# Altium footprint library CAPC - CAPacitorChip.PcbLib: 30 footprints (part 1 of 2)
Each footprint in its own frame and in the unit in brackets; x right, y up, seen from the top. Pads: shape width x height; smd on the part's side, far side on the other; paste and mask are expansions set on the pad; w line width, h text height; cw(c..) or ccw(c..) is an arc to the next point about the centre after c.
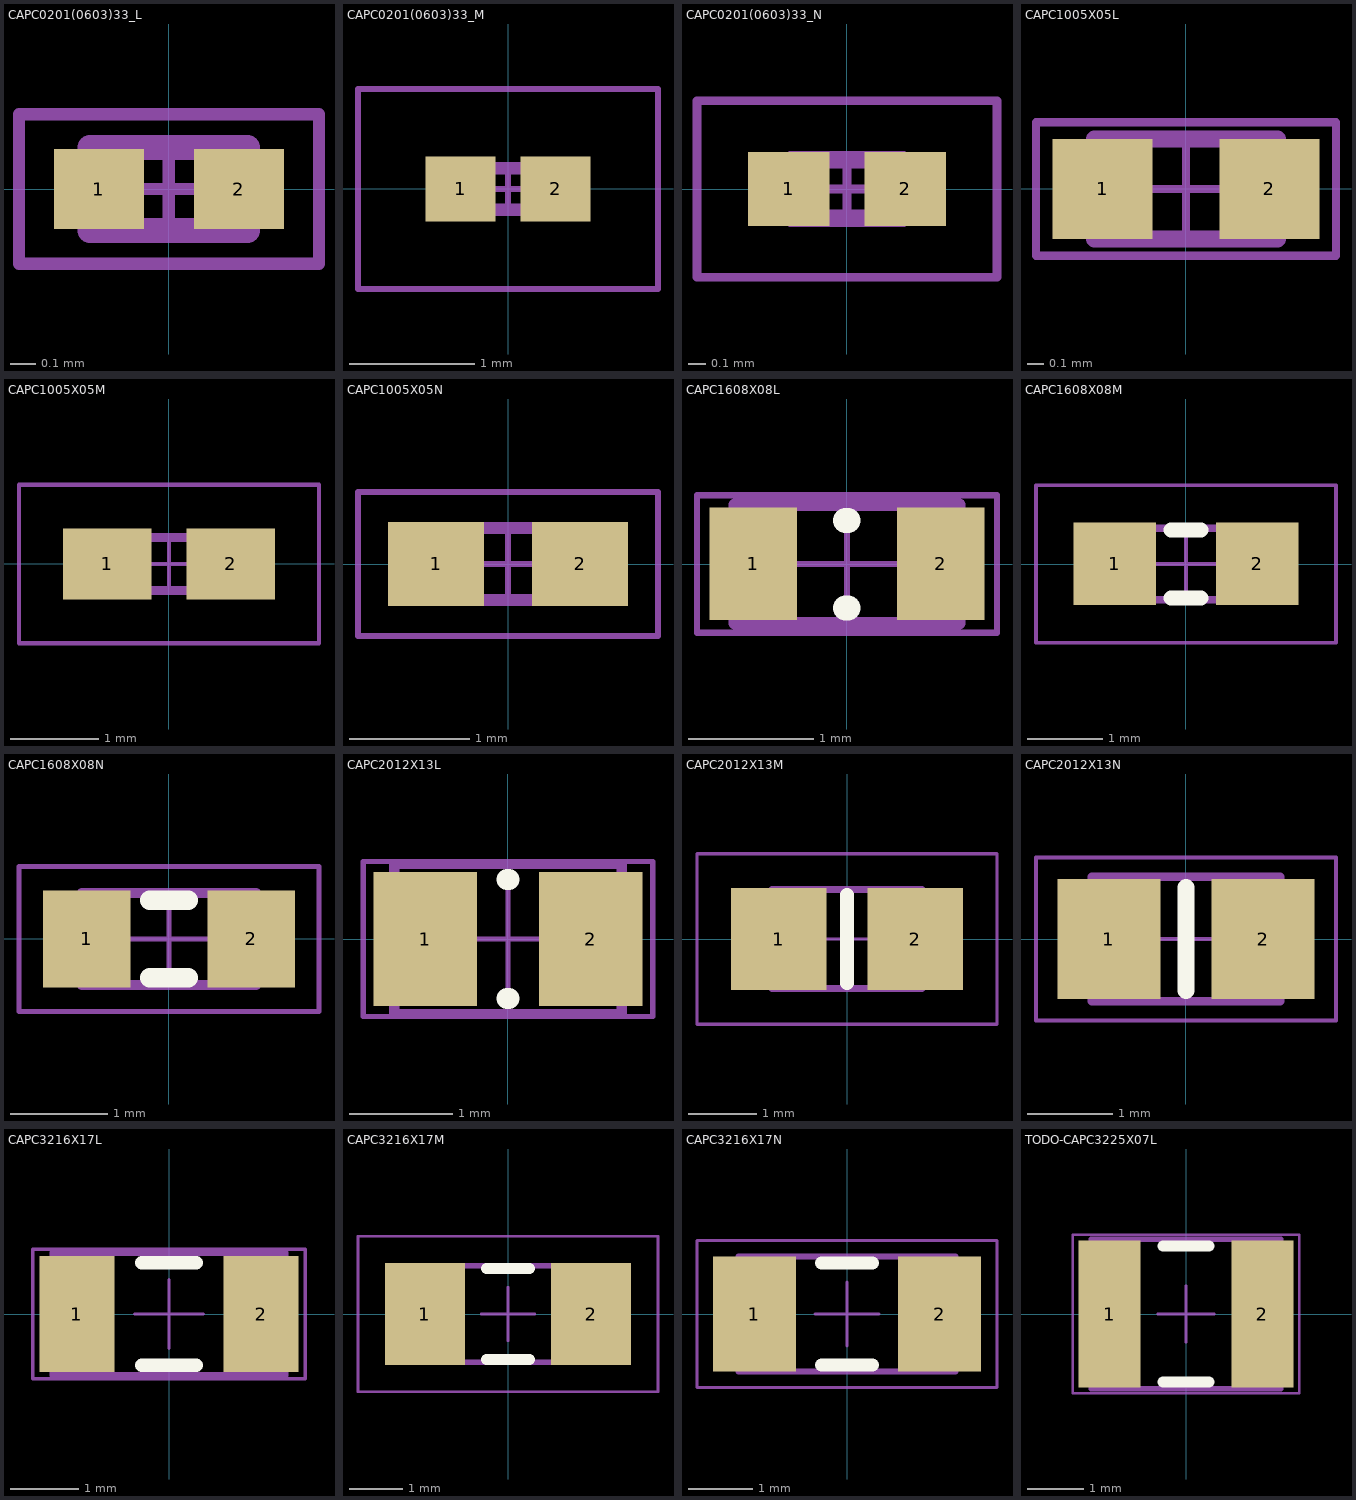
[diagram p0: the footprints below, top view; thin cyan lines are the x and y axes]

## CAPC0201(0603)33_L [mm] "Chip Capacitor, Body 0.6x0.3mm, Height 0.33mm, IPC High Density"
height 0.33
pads (2):
  rect 0.36x0.32 smd: 1(-0.28,0) 2(0.28,0)
TopBody:
  lines w0.1: -0.315,-0.165 -0.315,0.165 0.315,0.165 0.315,-0.165 -0.315,-0.165
TopCourtyard:
  lines w0.05: -0.165,0 0.165,0 ; 0,-0.165 0,0.165 ; -0.6,-0.3 -0.6,0.3 0.6,0.3 0.6,-0.3 -0.6,-0.3
3D body: height 0.33, standoff 0, extent -0.165,-0.165 0.165,0.165
3D body: height 0.33, standoff 0, extent -0.315,-0.165 -0.165,0.165
3D body: height 0.33, standoff 0, extent 0.165,-0.165 0.315,0.165

## CAPC0201(0603)33_M [mm] "Chip Capacitor, Body 0.6x0.3mm, Height 0.33mm, IPC Low Density"
height 0.33
pads (2):
  rect 0.56x0.52 smd: 1(-0.38,0) 2(0.38,0)
TopBody:
  lines w0.1: -0.315,-0.165 -0.315,0.165 0.315,0.165 0.315,-0.165 -0.315,-0.165
TopCourtyard:
  lines w0.05: -0.165,0 0.165,0 ; 0,-0.165 0,0.165 ; -1.2,-0.8 -1.2,0.8 1.2,0.8 1.2,-0.8 -1.2,-0.8
3D body: height 0.33, standoff 0, extent -0.165,-0.165 0.165,0.165
3D body: height 0.33, standoff 0, extent -0.315,-0.165 -0.165,0.165
3D body: height 0.33, standoff 0, extent 0.165,-0.165 0.315,0.165

## CAPC0201(0603)33_N [mm] "Chip Capacitor, Body 0.6x0.3mm, Height 0.33mm, IPC Medium Density"
height 0.33
pads (2):
  rect 0.46x0.42 smd: 1(-0.33,0) 2(0.33,0)
TopBody:
  lines w0.1: -0.315,-0.165 -0.315,0.165 0.315,0.165 0.315,-0.165 -0.315,-0.165
TopCourtyard:
  lines w0.05: -0.165,0 0.165,0 ; 0,-0.165 0,0.165 ; -0.85,-0.5 -0.85,0.5 0.85,0.5 0.85,-0.5 -0.85,-0.5
3D body: height 0.33, standoff 0, extent -0.165,-0.165 0.165,0.165
3D body: height 0.33, standoff 0, extent -0.315,-0.165 -0.165,0.165
3D body: height 0.33, standoff 0, extent 0.165,-0.165 0.315,0.165

## CAPC1005X05L [mm] "Chip Capacitor, Body 1.1x0.5mm, IPC High Density, EIA 0402"
height 0.5
pads (2):
  rect 0.6x0.6 smd: 1(-0.5,0) 2(0.5,0)
TopBody:
  lines w0.1: -0.55,-0.3 -0.55,0.3 0.55,0.3 0.55,-0.3 -0.55,-0.3
TopCourtyard:
  lines w0.05: -0.3,0 0.3,0 ; 0,-0.3 0,0.3 ; -0.9,-0.4 0.9,-0.4 0.9,0.4 -0.9,0.4 -0.9,-0.4
3D body: height 0.6, standoff 0, extent 0.25,-0.3 0.55,0.3
3D body: height 0.6, standoff 0, extent -0.25,-0.3 0.25,0.3
3D body: height 0.6, standoff 0, extent -0.55,-0.3 -0.25,0.3

## CAPC1005X05M [mm] "Chip Capacitor, Body 1.1x0.5mm, IPC Low Density, EIA 0402"
height 0.5
pads (2):
  rect 1x0.8 smd: 1(-0.7,0) 2(0.7,0)
TopBody:
  lines w0.1: -0.55,-0.3 -0.55,0.3 0.55,0.3 0.55,-0.3 -0.55,-0.3
TopCourtyard:
  lines w0.05: -0.3,0 0.3,0 ; 0,-0.3 0,0.3 ; -1.7,-0.9 -1.7,0.9 1.7,0.9 1.7,-0.9 -1.7,-0.9
3D body: height 0.6, standoff 0, extent 0.25,-0.3 0.55,0.3
3D body: height 0.6, standoff 0, extent -0.25,-0.3 0.25,0.3
3D body: height 0.6, standoff 0, extent -0.55,-0.3 -0.25,0.3

## CAPC1005X05N [mm] "Chip Capacitor, Body 1.1x0.5mm, IPC Medium Density, EIA 0402"
height 0.5
pads (2):
  rect 0.8x0.7 smd: 1(-0.6,0) 2(0.6,0)
TopBody:
  lines w0.1: -0.55,-0.3 -0.55,0.3 0.55,0.3 0.55,-0.3 -0.55,-0.3
TopCourtyard:
  lines w0.05: -0.3,0 0.3,0 ; 0,-0.3 0,0.3 ; -1.25,-0.6 1.25,-0.6 1.25,0.6 -1.25,0.6 -1.25,-0.6
3D body: height 0.6, standoff 0, extent 0.25,-0.3 0.55,0.3
3D body: height 0.6, standoff 0, extent -0.25,-0.3 0.25,0.3
3D body: height 0.6, standoff 0, extent -0.55,-0.3 -0.25,0.3

## CAPC1608X08L [mm] "Chip Capacitor, Body 1.6x0.8mm, IPC High Density, EIA 0603"
height 0.8
pads (2):
  rect 0.7x0.9 smd: 1(-0.75,0) 2(0.75,0)
Top Overlay:
  lines w0.2: -0.01,-0.35 0.01,-0.35 ; -0.01,0.35 0.01,0.35
TopBody:
  lines w0.1: 0.9,0.475 0.9,-0.475 -0.9,-0.475 -0.9,0.475 0.9,0.475 ; 0.9,0.475 0.9,0.475
TopCourtyard:
  lines w0.05: -0.475,0 0.475,0 ; 0,-0.475 0,0.475 ; -1.2,-0.55 1.2,-0.55 1.2,0.55 -1.2,0.55 -1.2,-0.55
3D body: height 0.95, standoff 0, extent 0.4,-0.475 0.9,0.475
3D body: height 0.95, standoff 0, extent -0.4,-0.475 0.4,0.475
3D body: height 0.95, standoff 0, extent -0.9,-0.475 -0.4,0.475

## CAPC1608X08M [mm] "Chip Capacitor, Body 1.6x0.8mm, IPC Low Density, EIA 0603"
height 0.8
pads (2):
  rect 1.1x1.1 smd: 1(-0.95,0) 2(0.95,0)
Top Overlay:
  lines w0.2: -0.2,-0.45 0.2,-0.45 ; -0.2,0.45 0.2,0.45
TopBody:
  lines w0.1: 0.9,0.475 -0.9,0.475 -0.9,-0.475 0.9,-0.475 0.9,0.475 ; 0.9,0.475 0.9,0.475
TopCourtyard:
  lines w0.05: -0.475,0 0.475,0 ; 0,-0.475 0,0.475 ; -2,-1.05 2,-1.05 2,1.05 -2,1.05 -2,-1.05
3D body: height 0.95, standoff 0, extent -0.9,-0.475 -0.4,0.475
3D body: height 0.95, standoff 0, extent -0.4,-0.475 0.4,0.475
3D body: height 0.95, standoff 0, extent 0.4,-0.475 0.9,0.475

## CAPC1608X08N [mm] "Chip Capacitor, Body 1.6x0.8mm, IPC Medium Density, EIA 0603"
height 0.8
pads (2):
  rect 0.9x1 smd: 1(-0.85,0) 2(0.85,0)
Top Overlay:
  lines w0.2: -0.2,-0.4 0.2,-0.4 ; -0.2,0.4 0.2,0.4
TopBody:
  lines w0.1: 0.9,0.475 0.9,-0.475 -0.9,-0.475 -0.9,0.475 0.9,0.475 ; 0.9,0.475 0.9,0.475
TopCourtyard:
  lines w0.05: -0.475,0 0.475,0 ; 0,-0.475 0,0.475 ; -1.55,-0.75 -1.55,0.75 1.55,0.75 1.55,-0.75 -1.55,-0.75
3D body: height 0.95, standoff 0, extent 0.4,-0.475 0.9,0.475
3D body: height 0.95, standoff 0, extent -0.4,-0.475 0.4,0.475
3D body: height 0.95, standoff 0, extent -0.9,-0.475 -0.4,0.475

## CAPC2012X13L [mm] "Chip Capacitor, Body 2.0x1.3mm, IPC High Density, EIA 0805"
height 1.25
pads (2):
  rect 1x1.3 smd: 1(-0.8,0) 2(0.8,0)
Top Overlay:
  lines w0.2: -0.01,-0.575 0.01,-0.575 ; -0.01,0.575 0.01,0.575
TopBody:
  lines w0.1: -1.1,-0.725 -1.1,0.725 1.1,0.725 1.1,-0.725 -1.1,-0.725
TopCourtyard:
  lines w0.05: -0.5,0 0.5,0 ; 0,-0.5 0,0.5 ; -1.4,-0.75 1.4,-0.75 1.4,0.75 -1.4,0.75 -1.4,-0.75
3D body: height 1.45, standoff 0, extent -1.1,-0.725 -0.35,0.725
3D body: height 1.45, standoff 0, extent -0.35,-0.725 0.35,0.725
3D body: height 1.45, standoff 0, extent 0.35,-0.725 1.1,0.725

## CAPC2012X13M [mm] "Chip Capacitor, Body 2.0x1.3mm, IPC Low Density, EIA 0805"
height 1.25
pads (2):
  rect 1.4x1.5 smd: 1(-1,0) 2(1,0)
Top Overlay:
  lines w0.2: 0,-0.65 0,0.65
TopBody:
  lines w0.1: -1.1,-0.725 -1.1,0.725 1.1,0.725 1.1,-0.725 -1.1,-0.725
TopCourtyard:
  lines w0.05: -0.5,0 0.5,0 ; 0,-0.5 0,0.5 ; -2.2,-1.25 -2.2,1.25 2.2,1.25 2.2,-1.25 -2.2,-1.25
3D body: height 1.45, standoff 0, extent -1.1,-0.725 -0.35,0.725
3D body: height 1.45, standoff 0, extent -0.35,-0.725 0.35,0.725
3D body: height 1.45, standoff 0, extent 0.35,-0.725 1.1,0.725

## CAPC2012X13N [mm] "Chip Capacitor, Body 2.0x1.3mm, IPC Medium Density, EIA 0805"
height 1.25
pads (2):
  rect 1.2x1.4 smd: 1(-0.9,0) 2(0.9,0)
Top Overlay:
  lines w0.2: 0,-0.6 0,0.6
TopBody:
  lines w0.1: -1.1,-0.725 1.1,-0.725 1.1,0.725 -1.1,0.725 -1.1,-0.725
TopCourtyard:
  lines w0.05: -0.5,0 0.5,0 ; 0,-0.5 0,0.5 ; -1.75,-0.95 -1.75,0.95 1.75,0.95 1.75,-0.95 -1.75,-0.95
3D body: height 1.45, standoff 0, extent 0.35,-0.725 1.1,0.725
3D body: height 1.45, standoff 0, extent -0.35,-0.725 0.35,0.725
3D body: height 1.45, standoff 0, extent -1.1,-0.725 -0.35,0.725

## CAPC3216X17L [mm] "Chip Capacitor, Body 3.2x1.6mm, IPC High Density, EIA 1206"
height 1.7
pads (2):
  rect 1.1x1.7 smd: 1(-1.35,0) 2(1.35,0)
Top Overlay:
  lines w0.2: -0.4,-0.75 0.4,-0.75 ; -0.4,0.75 0.4,0.75
TopBody:
  lines w0.1: -1.7,-0.9 1.7,-0.9 1.7,0.9 -1.7,0.9 -1.7,-0.9
TopCourtyard:
  lines w0.05: -0.5,0 0.5,0 ; 0,-0.5 0,0.5 ; -2,-0.95 2,-0.95 2,0.95 -2,0.95 -2,-0.95
3D body: height 1.9, standoff 0, extent 0.95,-0.9 1.7,0.9
3D body: height 1.9, standoff 0, extent -0.95,-0.9 0.95,0.9
3D body: height 1.9, standoff 0, extent -1.7,-0.9 -0.95,0.9

## CAPC3216X17M [mm] "Chip Capacitor, Body 3.2x1.6mm, IPC Low Density, EIA 1206"
height 1.7
pads (2):
  rect 1.5x1.9 smd: 1(-1.55,0) 2(1.55,0)
Top Overlay:
  lines w0.2: -0.4,-0.85 0.4,-0.85 ; -0.4,0.85 0.4,0.85
TopBody:
  lines w0.1: -1.7,-0.9 1.7,-0.9 1.7,0.9 -1.7,0.9 -1.7,-0.9
TopCourtyard:
  lines w0.05: -0.5,0 0.5,0 ; 0,-0.5 0,0.5 ; -2.8,-1.45 2.8,-1.45 2.8,1.45 -2.8,1.45 -2.8,-1.45
3D body: height 1.9, standoff 0, extent 0.95,-0.9 1.7,0.9
3D body: height 1.9, standoff 0, extent -0.95,-0.9 0.95,0.9
3D body: height 1.9, standoff 0, extent -1.7,-0.9 -0.95,0.9

## CAPC3216X17N [mm] "Chip Capacitor, Body 3.2x1.6mm, IPC Medium Density, EIA 1206"
height 1.7
pads (2):
  rect 1.3x1.8 smd: 1(-1.45,0) 2(1.45,0)
Top Overlay:
  lines w0.2: -0.4,-0.8 0.4,-0.8 ; -0.4,0.8 0.4,0.8
TopBody:
  lines w0.1: -1.7,-0.9 -1.7,0.9 1.7,0.9 1.7,-0.9 -1.7,-0.9
TopCourtyard:
  lines w0.05: -0.5,0 0.5,0 ; 0,-0.5 0,0.5 ; -2.35,-1.15 -2.35,1.15 2.35,1.15 2.35,-1.15 -2.35,-1.15
3D body: height 1.9, standoff 0, extent -1.7,-0.9 -0.95,0.9
3D body: height 1.9, standoff 0, extent -0.95,-0.9 0.95,0.9
3D body: height 1.9, standoff 0, extent 0.95,-0.9 1.7,0.9

## TODO-CAPC3225X07L [mm] "Chip Resistor, Body 3.2x2.5mm, IPC High Density, EIA 1210"
height 0.7
pads (2):
  rect 1.1x2.6 smd: 1(-1.35,0) 2(1.35,0)
Top Overlay:
  lines w0.2: -0.4,-1.2 0.4,-1.2 ; -0.4,1.2 0.4,1.2
TopBody:
  lines w0.1: -1.675,-1.32 -1.675,1.32 1.675,1.32 1.675,-1.32 -1.675,-1.32
TopCourtyard:
  lines w0.05: -0.5,0 0.5,0 ; 0,-0.5 0,0.5 ; -2,-1.4 -2,1.4 2,1.4 2,-1.4 -2,-1.4
3D body: height 0.7, standoff 0, extent -1.675,-1.32 1.675,1.32